# EAGLE library part TLE4207 (library wolfi)
1A Dual Half Birdge Driver
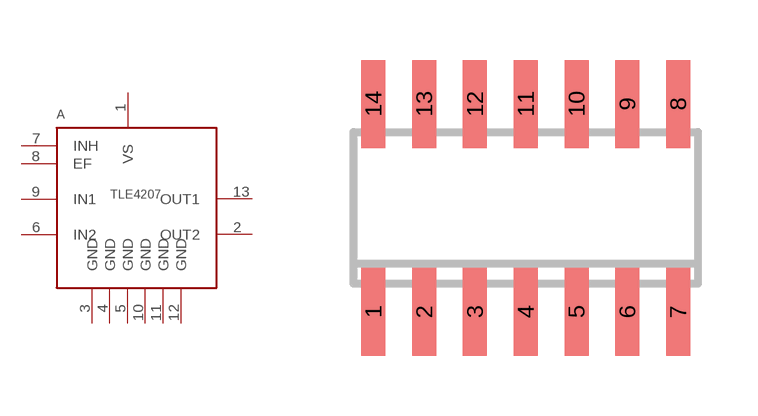
[diagram p9: symbol with the pads of SO14; footprint SO14]

Designator prefix A

## TLE4207G  [SO14]
1  VS  pas
2  OUT2  pas
3  GND  pas
4  GND  pas
5  GND  pas
6  IN2  in
7  INH  in
8  EF  oc
9  IN1  in
10  GND  pas
11  GND  pas
12  GND  pas
13  OUT1  pas

## Footprint SO14 (pad centres in mm)
smd 0.6 x 2.2: 1 -3.81,-2.6; 2 -2.54,-2.6; 3 -1.27,-2.6; 4 0,-2.6; 5 1.27,-2.6; 6 2.54,-2.6; 7 3.81,-2.6; 8 3.81,2.6; 9 2.54,2.6; 10 1.27,2.6; 11 0,2.6; 12 -1.27,2.6; 13 -2.54,2.6; 14 -3.81,2.6